# EAGLE library part LED-RGB (library Jordi)
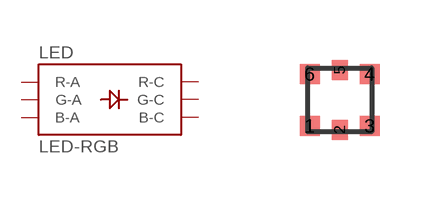
[diagram p7: symbol with the pads of LED-R98G-RGB-SMD; footprint LED-R98G-RGB-SMD]

Designator prefix LED

## LED-RGBSMD  [LED-R98G-RGB-SMD]
1  B-A  pas
2  G-A  pas
3  R-A  pas
4  R-C  pas
5  G-C  pas
6  B-C  pas

## Footprint LED-R98G-RGB-SMD (pad centres in mm)
Digikey Part <http://www.digikey.com/product-detail/en/LRTB%20R98G-R7T5-1%2BS7U-26%2BP7R-26/475-2855-1-ND/2207268>
smd 0.5 x 0.5: 1 -0.75,-0.65; 3 0.75,-0.65; 4 0.75,0.65; 6 -0.75,0.65
smd 0.4 x 0.5: 2 0,-0.75; 5 0,0.75